# Altium footprint library actives.PcbLib: 34 footprints (part 2 of 3)
Each footprint in its own frame and in the unit in brackets; x right, y up, seen from the top. Pads: shape width x height; smd on the part's side, far side on the other; paste and mask are expansions set on the pad; w line width, h text height; cw(c..) or ccw(c..) is an arc to the next point about the centre after c.
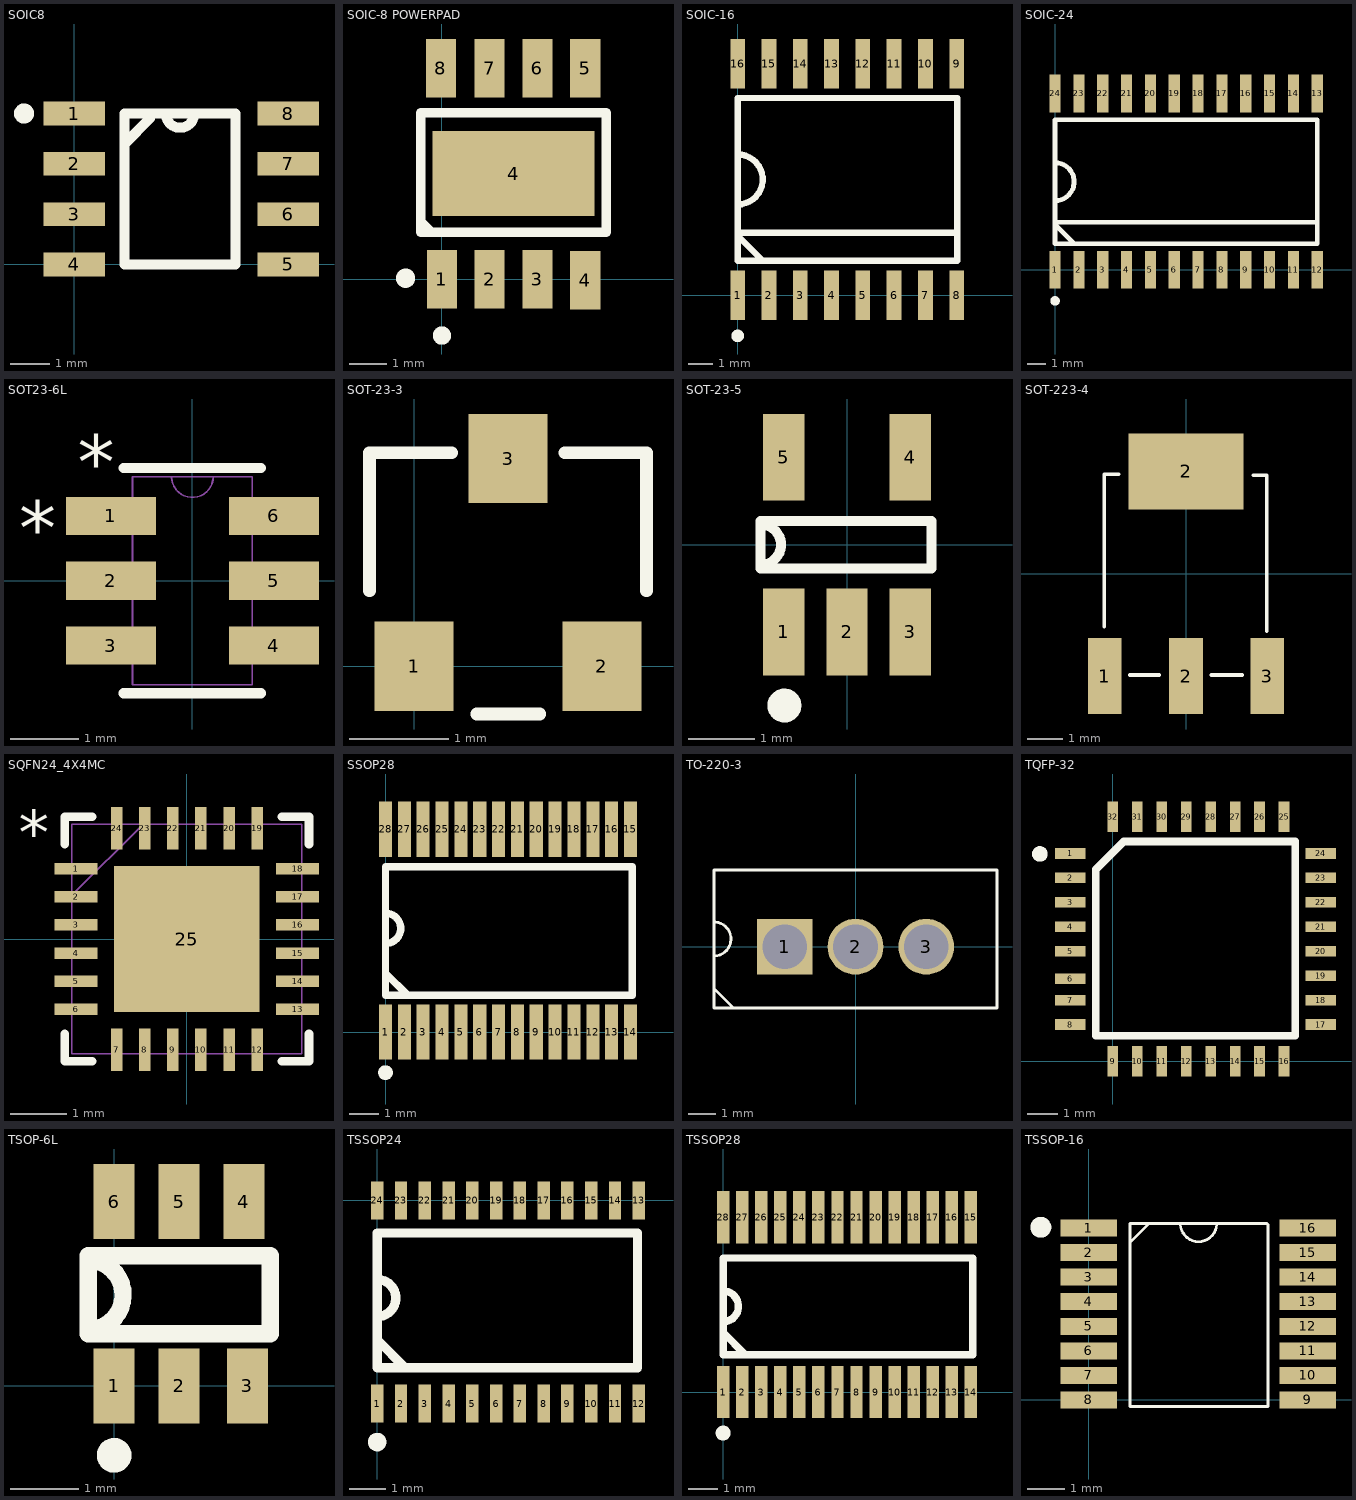
[diagram p1: the footprints below, top view; thin cyan lines are the x and y axes]

## SOIC8 [mm]
pads (8):
  rect 1.55x0.6 smd: 1(0,3.81) 2(0,2.54) 3(0,1.27) 4(0,0) 5(5.4,0) 6(5.4,1.27) 7(5.4,2.54) 8(5.4,3.81)
Top Overlay:
  circle w0.254: c-1.27,3.81 r0.127
  lines w0.254: 1.905,3.683 1.27,3.048 1.27,3.81 ; 2.308,3.81 ccw(c2.667,3.81) 3.026,3.81 ; 1.27,3.81 1.27,0 4.064,0 4.064,3.81 1.27,3.81
3D body: height 2, standoff 0, extent -0.415,-0.606 5.749,4.394

## SOIC-8 POWERPAD [mm]
pads (9):
  rect 0.8x1.55 smd: 1(0,0) 2(1.27,0) 3(2.54,0) 4(3.81,-0.025) 5(3.81,5.61) 6(2.54,5.61) 7(1.27,5.61) 8(-0.025,5.61)
  rect 4.3x2.26 smd: 4(1.905,2.805)
Top Overlay:
  circle w0.3: c0,-1.499 r0.092
  circle w0.3: c-0.965,0.025 r0.105
  lines w0.254: -0.559,1.575 -0.559,1.524 -0.279,1.245 ; -0.559,1.245 -0.559,4.42 4.369,4.42 4.369,1.245 -0.559,1.245

## SOIC-16 [mm]
pads (16):
  rect 0.6x2 smd: 1(0,0) 2(1.27,0) 3(2.54,0) 4(3.81,0) 5(5.08,0) 6(6.35,0) 7(7.62,0) 8(8.89,0) 9(8.89,9.4) 10(7.62,9.4) 11(6.35,9.4) 12(5.08,9.4) 13(3.81,9.4) 14(2.54,9.4) 15(1.27,9.4) 16(0,9.4)
Top Overlay:
  circle w0.254: c0,-1.651 r0.127
  lines w0.254: 0,3.683 ccw(c0,4.699) 0,5.715 ; 1.016,1.397 0,2.413 0,2.54 8.865,2.54 ; 0,1.397 0,8.001 8.915,8.001 8.915,1.397 0,1.397

## SOIC-24 [mm]
pads (24):
  rect 0.6x2 smd: 1(0,0) 2(1.27,0) 3(2.54,0) 4(3.81,0) 5(5.08,0) 6(6.35,0) 7(7.62,0) 8(8.89,0) 9(10.16,0) 10(11.43,0) 11(12.7,0) 12(13.97,0) 13(13.97,9.4) 14(12.7,9.4) 15(11.43,9.4) 16(10.16,9.4) 17(8.89,9.4) 18(7.62,9.4) 19(6.35,9.4) 20(5.08,9.4) 21(3.81,9.4) 22(2.54,9.4) 23(1.27,9.4) 24(0,9.4)
Top Overlay:
  circle w0.254: c0,-1.651 r0.127
  lines w0.254: 0,3.683 ccw(c0,4.699) 0,5.715 ; 1.016,1.397 0,2.413 0,2.54 13.97,2.54 ; 0,1.397 13.97,1.397 13.97,8.001 0,8.001 0,1.397

## SOT23-6L [mil]
pads (6):
  rect 52x22 smd: 1(-47,37.4) 2(-47,0) 3(-47,-37.4) 4(47,-37.4) 5(47,0) 6(47,37.4)
Top Overlay:
  lines w6: -39.5,-65 39.5,-65 ; -39.5,65 39.5,65
  text "*" at -100,15 h31.25
  text "*" at -66,53 h31.25
Outline:
  lines w1: -12,60 ccw(c0,60) 12,60 ; -59,-47.4 -34.5,-47.4 -34.5,-27.4 -59,-27.4 -59,-47.4 ; -59,-10 -34.5,-10 -34.5,10 -59,10 -59,-10 ; -59,27.4 -34.5,27.4 -34.5,47.4 -59,47.4 -59,27.4 ; -34.5,-60 -34.5,60 34.5,60 34.5,-60 -34.5,-60 ; 34.5,-47.4 59,-47.4 59,-27.4 34.5,-27.4 34.5,-47.4 ; 34.5,-10 59,-10 59,10 34.5,10 34.5,-10 ; 34.5,27.4 59,27.4 59,47.4 34.5,47.4 34.5,27.4
  text "*" at -19.5,57 h31.25
3D body: height 43.46, standoff -0.54, extent -57,-56.5 55,58.51

## SOT-23-3 [mm]
pads (3):
  rect 0.8x0.9 smd: 1(0,0) 2(1.9,0) 3(0.95,2.1)
Top Overlay:
  lines w0.127: -0.45,0.762 -0.45,2.159 0.381,2.159 ; 0.635,-0.483 1.27,-0.483 ; 1.524,2.159 2.35,2.159 2.35,0.762

## SOT-23-5 [mm]
pads (5):
  rect 0.62x1.3 smd: 1(-0.95,-1.31) 2(0,-1.31) 3(0.95,-1.31) 4(0.95,1.31) 5(-0.95,1.31)
Top Overlay:
  circle w0.254: c-0.94,-2.413 r0.127
  lines w0.15: -1.295,-0.305 ccw(c-1.295,0) -1.295,0.305 ; -1.295,-0.356 1.27,-0.356 1.27,0.356 -1.295,0.356 -1.295,-0.356
3D body: height 1.1, standoff 0, extent -1.5,-1.522 1.5,1.318

## SOT-223-4 [mm]
pads (4):
  rect 0.95x2.15 smd: 1(-2.3,-2.9) 2(0,-2.9) 3(2.3,-2.9)
  rect 3.25x2.15 smd: 2(0,2.9)
Top Overlay:
  lines w0.1: -2.311,-1.499 -2.311,2.819 -1.905,2.819 ; -1.6,-2.87 -0.762,-2.87 ; 0.711,-2.87 1.6,-2.87 ; 1.905,2.794 2.286,2.794 2.286,-1.626
3D body: height 1.8, standoff 0, extent -2.337,-2.946 2.362,2.794

## SQFN24_4X4MC [mil]
pads (25):
  rect 30x8 smd: 1(-77.5,49.21) 2(-77.5,29.53) 3(-77.5,9.84) 4(-77.5,-9.84) 5(-77.5,-29.53) 6(-77.5,-49.21) 13(77.5,-49.21) 14(77.5,-29.53) 15(77.5,-9.84) 16(77.5,9.84) 17(77.5,29.53) 18(77.5,49.21)
  rect 8x30 smd: 7(-49.21,-77.5) 8(-29.53,-77.5) 9(-9.84,-77.5) 10(9.84,-77.5) 11(29.53,-77.5) 12(49.21,-77.5) 19(49.21,77.5) 20(29.53,77.5) 21(9.84,77.5) 22(-9.84,77.5) 23(-29.53,77.5) 24(-49.21,77.5)
  rect 102x102 smd: 25(0,0)
Top Overlay:
  lines w6: -85.5,-66.31 -85.5,-85.5 -66.31,-85.5 ; -85.5,66.31 -85.5,85.5 -66.31,85.5 ; 66.31,-85.5 85.5,-85.5 85.5,-66.31 ; 66.31,85.5 85.5,85.5 85.5,66.31
  text "*" at -117.5,59.06 h31.25
Outline:
  lines w1: -80.5,30.5 -30.5,80.5 ; -80.5,-80.5 -80.5,80.5 80.5,80.5 80.5,-80.5 -80.5,-80.5 ; -80.5,-55.21 -80.5,-43.21 -80.5,-55.21 ; -80.5,-35.53 -80.5,-23.53 -80.5,-35.53 ; -80.5,-15.84 -80.5,-3.84 -80.5,-15.84 ; -80.5,3.84 -80.5,15.84 -80.5,3.84 ; -80.5,23.53 -80.5,35.53 -80.5,23.53 ; -80.5,43.21 -80.5,55.21 -80.5,43.21 ; -55.21,-80.5 -43.21,-80.5 -55.21,-80.5 ; -55.21,80.5 -43.21,80.5 -55.21,80.5 ; -35.53,-80.5 -23.53,-80.5 -35.53,-80.5 ; -35.53,80.5 -23.53,80.5 -35.53,80.5 ; -15.84,-80.5 -3.84,-80.5 -15.84,-80.5 ; -15.84,80.5 -3.84,80.5 -15.84,80.5 ; 3.84,-80.5 15.84,-80.5 3.84,-80.5 ; 3.84,80.5 15.84,80.5 3.84,80.5 ; 23.53,-80.5 35.53,-80.5 23.53,-80.5 ; 23.53,80.5 35.53,80.5 23.53,80.5 ; 43.21,-80.5 55.21,-80.5 43.21,-80.5 ; 43.21,80.5 55.21,80.5 43.21,80.5 ; 80.5,-55.21 80.5,-43.21 80.5,-55.21 ; 80.5,-35.53 80.5,-23.53 80.5,-35.53 ; 80.5,-15.84 80.5,-3.84 80.5,-15.84 ; 80.5,3.84 80.5,15.84 80.5,3.84 ; 80.5,23.53 80.5,35.53 80.5,23.53 ; 80.5,43.21 80.5,55.21 80.5,43.21
  text "*" at -62.5,59.06 h31.25
Courtyard Bottom:
  text "Alt 2 Padstyle: OX90Y60D30P" at 0,-592.5 h31.25
  text "Alt 1 Padstyle: OX60Y90D30P" at 0,-532.5 h31.25
3D body: height 33.46, standoff -1.97, extent -77.14,-79.13 81.13,79.13

## SSOP28 [mm]
pads (28):
  rect 0.45x1.9 smd: 1(0,0) 2(0.65,0) 3(1.3,0) 4(1.95,0) 5(2.6,0) 6(3.25,0) 7(3.9,0) 8(4.55,0) 9(5.2,0) 10(5.85,0) 11(6.5,0) 12(7.15,0) 13(7.8,0) 14(8.45,0) 15(8.45,7) 16(7.8,7) 17(7.15,7) 18(6.5,7) 19(5.85,7) 20(5.2,7) 21(4.55,7) 22(3.9,7) 23(3.25,7) 24(2.6,7) 25(1.95,7) 26(1.3,7) 27(0.65,7) 28(0,7)
Top Overlay:
  circle w0.254: c0,-1.397 r0.127
  lines w0.254: 0,3.058 ccw(c0,3.581) 0,4.105 ; 0,4.572 0,1.27 8.509,1.27 8.509,5.7 0,5.7 0,2.032 0.762,1.27

## TO-220-3 [mm]
pads (3):
  rect 2x2 hole 1.6: 1(-2.54,0)
  round 2 hole 1.6: 2(0,0) 3(2.54,0)
Top Overlay:
  lines w0.1: -5.08,-1.397 -5.08,-1.499 -4.394,-2.184 ; -5.08,-0.335 ccw(c-5.08,0.275) -5.025,0.883 ; -5.08,-2.2 -5.08,2.75 5.08,2.75 5.08,-2.2 -5.08,-2.2
3D body: height 17.6, standoff -11.6, extent -5.118,-1.968 5.182,2.425

## TQFP-32 [mm]
pads (32):
  rect 1x0.35 smd: 1(-1.4,6.8) 2(-1.4,6) 3(-1.4,5.2) 4(-1.4,4.4) 5(-1.4,3.6) 6(-1.4,2.7) 7(-1.4,2) 8(-1.4,1.2) 17(6.8,1.2) 18(6.8,2) 19(6.8,2.8) 20(6.8,3.6) 21(6.8,4.4) 22(6.8,5.2) 23(6.8,6) 24(6.8,6.8)
  rect 0.35x1 smd: 9(0,0) 10(0.8,0) 11(1.6,0) 12(2.4,0) 13(3.2,0) 14(4,0) 15(4.8,0) 16(5.6,0) 25(5.6,8) 26(4.8,8) 27(4,8) 28(3.2,8) 29(2.4,8) 30(1.6,8) 31(0.8,8) 32(0,8)
Top Overlay:
  circle w0.254: c-2.388,6.782 r0.127
  lines w0.254: -0.559,6.198 -0.559,6.274 ; -0.559,6.274 0.356,7.188 ; -0.559,6.274 -0.559,0.838 5.969,0.838 5.969,7.188 0.356,7.188 ; -0.559,6.274 0.356,7.188

## TSOP-6L [mm]
pads (6):
  rect 0.6x1.1 smd: 1(0,0) 2(0.95,0) 3(1.95,0) 4(1.9,2.7) 5(0.95,2.7) 6(0,2.7)
Top Overlay:
  circle w0.254: c0,-1.016 r0.127
  lines w0.254: -0.381,0.822 ccw(c-0.381,1.333) -0.27,1.833 ; -0.381,0.762 2.286,0.762 2.286,1.905 -0.381,1.905 -0.381,0.762

## TSSOP24 [mm]
pads (24):
  rect 0.34x1.05 smd: 1(0,-5.55) 2(0.65,-5.55) 3(1.3,-5.55) 4(1.95,-5.55) 5(2.6,-5.55) 6(3.25,-5.55) 7(3.9,-5.55) 8(4.55,-5.55) 9(5.2,-5.55) 10(5.85,-5.55) 11(6.5,-5.55) 12(7.15,-5.55) 13(7.15,0) 14(6.5,0) 15(5.85,0) 16(5.2,0) 17(4.55,0) 18(3.9,0) 19(3.25,0) 20(2.6,0) 21(1.95,0) 22(1.3,0) 23(0.65,0) 24(0,0)
Top Overlay:
  circle w0.254: c0,-6.604 r0.127
  lines w0.254: 0,-3.81 0.762,-4.572 ; 0,-3.175 ccw(c0,-2.667) 0,-2.159 ; 0,-4.572 7.112,-4.572 7.112,-0.889 0,-0.889 0,-4.572

## TSSOP28 [mm]
pads (28):
  rect 0.42x1.78 smd: 1(0,0) 2(0.65,0) 3(1.3,0) 4(1.95,0) 5(2.6,0) 6(3.25,0) 7(3.9,0) 8(4.55,0) 9(5.2,0) 10(5.85,0) 11(6.5,0) 12(7.15,0) 13(7.8,0) 14(8.45,0) 15(8.45,5.96) 16(7.8,5.96) 17(7.15,5.96) 18(6.5,5.96) 19(5.85,5.96) 20(5.2,5.96) 21(4.55,5.96) 22(3.9,5.96) 23(3.25,5.96) 24(2.6,5.96) 25(1.95,5.96) 26(1.3,5.96) 27(0.65,5.96) 28(0,5.96)
Top Overlay:
  circle w0.254: c0,-1.397 r0.127
  lines w0.254: 0,2.397 ccw(c0,2.921) 0,3.445 ; 0.762,1.27 0,2.032 0,4.572 ; 0,4.572 0,1.27 8.509,1.27 8.509,4.572 0,4.572

## TSSOP-16 [mm]
pads (16):
  rect 1.5x0.45 smd: 1(0,4.55) 2(0,3.9) 3(0,3.25) 4(0,2.6) 5(0,1.95) 6(0,1.3) 7(0,0.65) 8(0,0) 9(5.8,0) 10(5.8,0.65) 11(5.8,1.3) 12(5.8,1.95) 13(5.8,2.6) 14(5.8,3.25) 15(5.8,3.9) 16(5.8,4.55)
Top Overlay:
  circle w0.3: c-1.27,4.572 r0.127
  lines w0.075: 1.092,4.115 1.092,4.166 1.6,4.674 ; 2.426,4.646 ccw(c2.908,4.674) 3.39,4.65 ; 1.092,-0.178 4.75,-0.178 4.75,4.648 4.724,4.674 1.092,4.674 1.092,-0.178